# Altium schematic symbol library parts.SCHLIB: 33 symbols
Pins are listed as number, name and electrical type; pins without a type are passive.

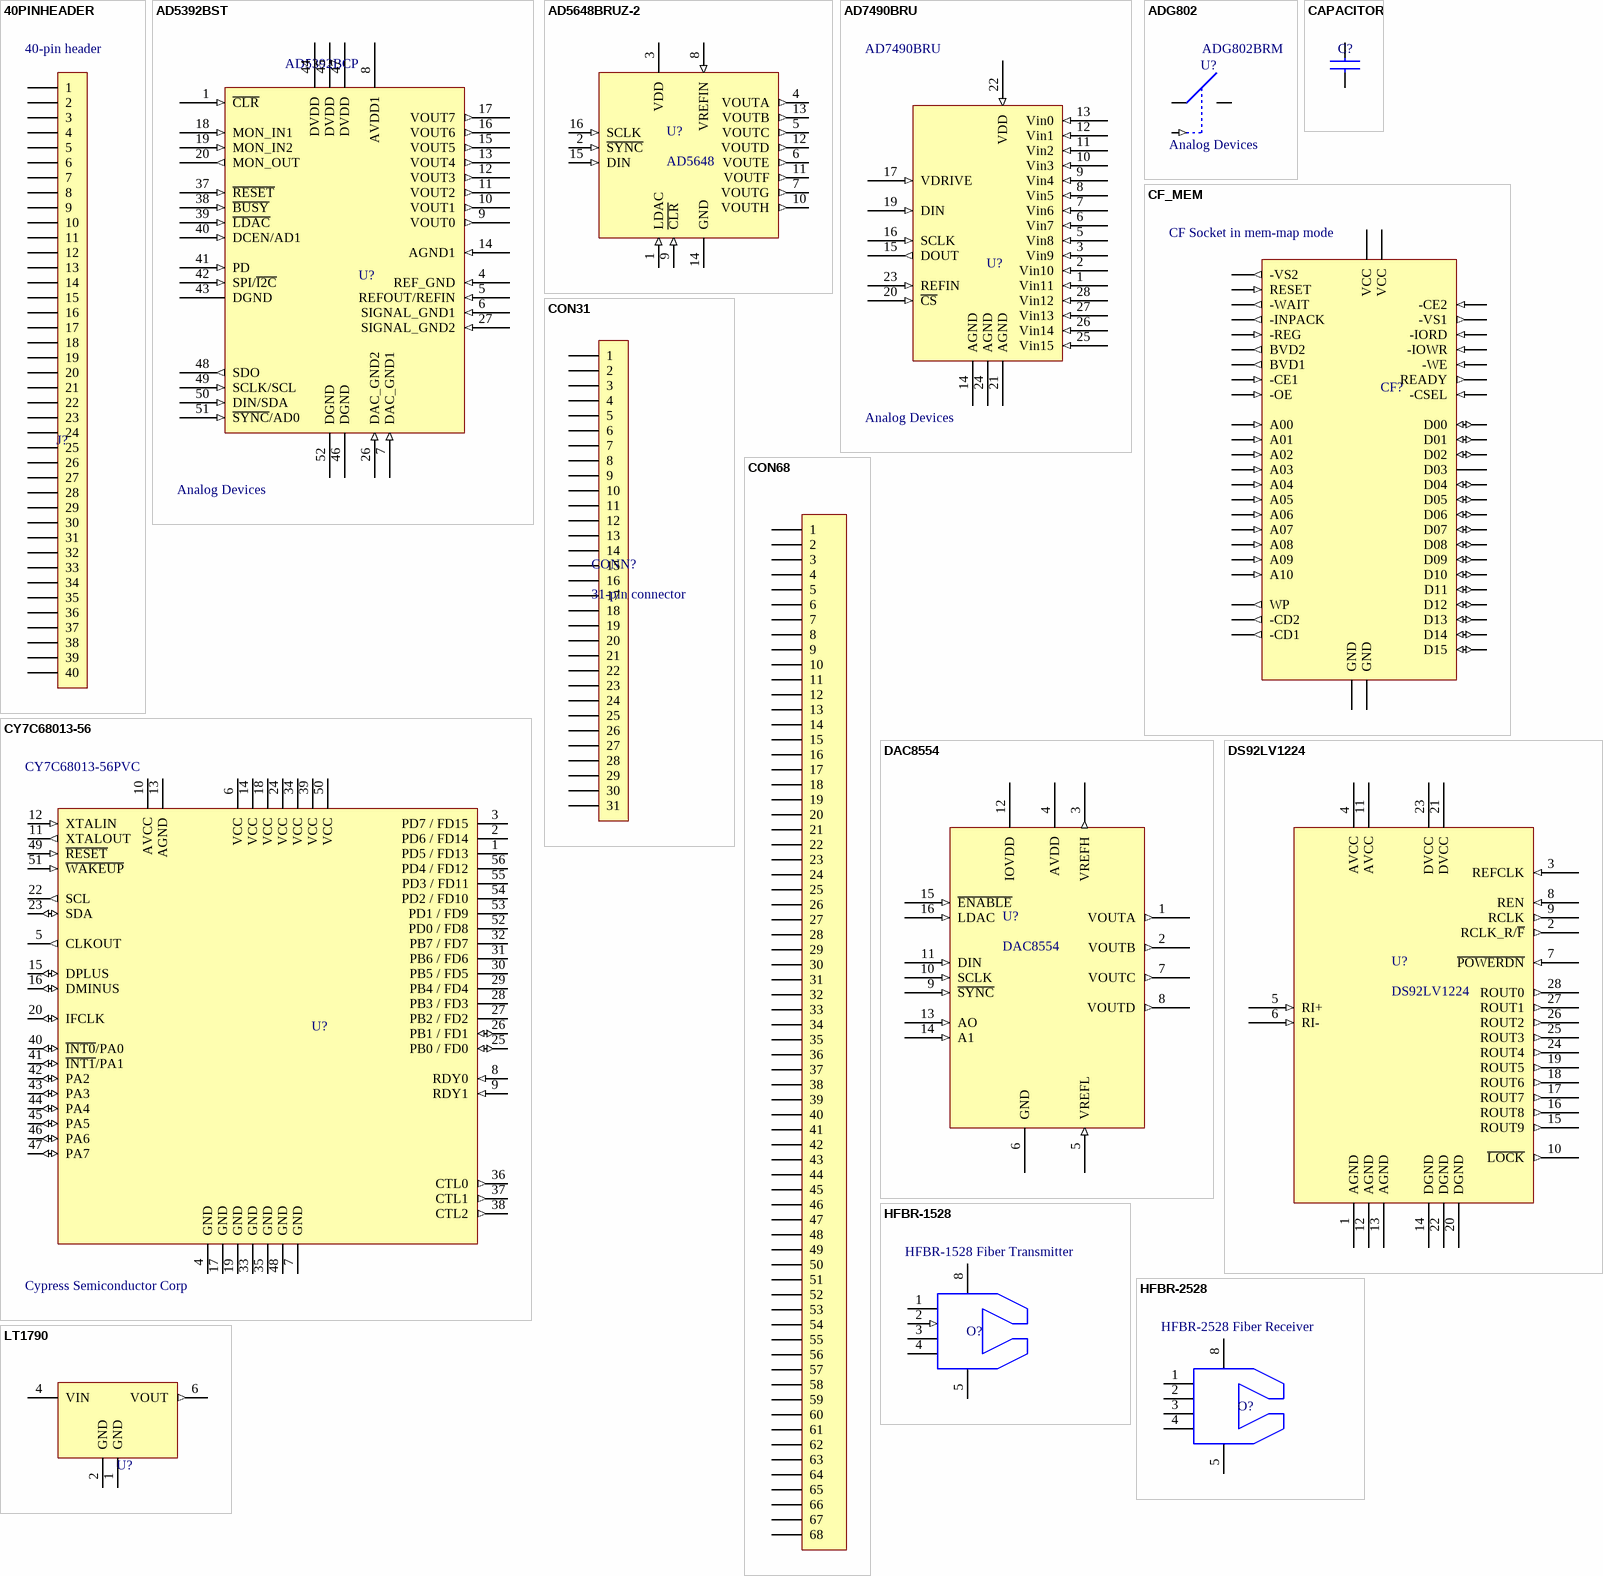
[diagram p0: symbols 40PINHEADER to LT1790]

## 40PINHEADER
designator J?, comment 40-pin header
Simple 40pin connector
pins: 1, 2, 3, 4, 5, 6, 7, 8, 9, 10, 11, 12, 13, 14, 15, 16, 17, 18, 19, 20, 21, 22, 23, 24, 25, 26, 27, 28, 29, 30, 31, 32, 33, 34, 35, 36, 37, 38, 39, 40

## AD5392BST
designator U?, comment AD5392BCP  Vendor: Analog Devices
8-chan 14-BIT DAC
footprint QFP10x10-G52/Y1.6N
pins: 1 ~{CLR} (in), 4 REF_GND (in), 5 REFOUT/REFIN (in), 6 SIGNAL_GND1 (in), 7 DAC_GND1 (in), 8 AVDD1 (power), 9 VOUT0 (out), 10 VOUT1 (out), 11 VOUT2 (out), 12 VOUT3 (out), 13 VOUT4 (out), 14 AGND1 (in), 15 VOUT5 (out), 16 VOUT6 (out), 17 VOUT7 (out), 18 MON_IN1 (in), 19 MON_IN2 (in), 20 MON_OUT (out), 26 DAC_GND2 (in), 27 SIGNAL_GND2 (in), 37 ~{RESET} (in), 38 ~{BUSY} (in), 39 ~{LDAC} (in), 40 DCEN/AD1 (in), 41 PD (in), 42 SPI/~{I2C} (in), 43 DGND (power), 44 DVDD (power), 45 DVDD (power), 46 DGND (power), 47 DVDD (power), 48 SDO (out), 49 SCLK/SCL (in), 50 DIN/SDA (in), 51 ~{SYNC}/AD0 (in), 52 DGND (power)

## AD5648BRUZ-2
designator U?, comment AD5648
AD 14-bit DAC
footprint TSSO5x6-G16 (Shrink Small Outline; 16 Leads; Body Width 4.4 mm; Pitch 0.65 mm)
pins: 1 LDAC (in), 2 ~{SYNC} (in), 3 VDD (power), 4 VOUTA (out), 5 VOUTC (out), 6 VOUTE (out), 7 VOUTG (out), 8 VREFIN (in), 9 ~{CLR} (in), 10 VOUTH (out), 11 VOUTF (out), 12 VOUTD (out), 13 VOUTB (out), 14 GND (power), 15 DIN (in), 16 SCLK (in)

## AD7490BRU
designator U?  Vendor: Analog Devices
16-chan 12-bit ADC
footprint SSO-G28/X.45
pins: 1 Vin11 (in), 2 Vin10 (in), 3 Vin9 (in), 5 Vin8 (in), 6 Vin7 (in), 7 Vin6 (in), 8 Vin5 (in), 9 Vin4 (in), 10 Vin3 (in), 11 Vin2 (in), 12 Vin1 (in), 13 Vin0 (in), 14 AGND (power), 15 DOUT (out), 16 SCLK (in), 17 VDRIVE (in), 19 DIN (in), 20 ~{CS} (in), 21 AGND (power), 22 VDD (in), 23 REFIN (in), 24 AGND (power), 25 Vin15 (in), 26 Vin14 (in), 27 Vin13 (in), 28 Vin12 (in)

## ADG802
designator U?, comment ADG802BRM  Vendor: Analog Devices
Low Ron single-supply SPST NO mux.
footprint AD RM-8
pins: 1 D, 4 AVDD (power) hidden to AVDD, 6 IN (in), 7 GND (power) hidden to GND, 8 S

## CAPACITOR
designator C?
Standard Capacitor; Type: X7R
footprint 0603 (Standard-sized 0603 Passive)
pins: 1, 2

## CF_MEM
designator CF?, comment CF Socket in mem-map mode
CF socket in memory-mapped mode
pins: 1 GND (power), 2 D03 (power), 3 D04 (io), 4 D05 (io), 5 D06 (io), 6 D07 (io), 7 -CE1 (in), 8 A10 (in), 9 -OE (in), 10 A09 (in), 11 A08 (in), 12 A07 (in), 13 VCC (power), 14 A06 (in), 15 A05 (in), 16 A04 (in), 17 A03 (in), 18 A02 (in), 19 A01 (in), 20 A00 (in), 21 D00 (io), 22 D01 (io), 23 D02 (io), 24 WP (out), 25 -CD2 (out), 26 -CD1 (out), 27 D11 (io), 28 D12 (io), 29 D13 (io), 30 D14 (io), 31 D15 (io), 32 -CE2 (in), 33 -VS1 (out), 34 -IORD (in), 35 -IOWR (in), 36 -WE (in), 37 READY (out), 38 VCC (power), 39 -CSEL (in), 40 -VS2 (out), 41 RESET (in), 42 -WAIT (out), 43 -INPACK (out), 44 -REG (in), 45 BVD2 (out), 46 BVD1 (out), 47 D08 (io), 48 D09 (io), 49 D10 (io), 50 GND (power)

## CON31
designator CONN?, comment 31-pin connector
pins: 1, 2, 3, 4, 5, 6, 7, 8, 9, 10, 11, 12, 13, 14, 15, 16, 17, 18, 19, 20, 21, 22, 23, 24, 25, 26, 27, 28, 29, 30, 31

## CON68
designator ?
pins: 1, 2, 3, 4, 5, 6, 7, 8, 9, 10, 11, 12, 13, 14, 15, 16, 17, 18, 19, 20, 21, 22, 23, 24, 25, 26, 27, 28, 29, 30, 31, 32, 33, 34, 35, 36, 37, 38, 39, 40, 41, 42, 43, 44, 45, 46, 47, 48, 49, 50, 51, 52, 53, 54, 55, 56, 57, 58, 59, 60, 61, 62, 63, 64, 65, 66, 67, 68

## CY7C68013-56
designator U?, comment CY7C68013-56PVC  Vendor: Cypress Semiconductor Corp
EZ-USB FX2
footprint SOP56FX2
pins: 1 PD5 / FD13, 2 PD6 / FD14, 3 PD7 / FD15, 4 GND (power), 5 CLKOUT (out), 6 VCC (power), 7 GND (power), 8 RDY0 (in), 9 RDY1 (in), 10 AVCC (power), 11 XTALOUT (out), 12 XTALIN (in), 13 AGND (power), 14 VCC (power), 15 DPLUS (io), 16 DMINUS (io), 17 GND (power), 18 VCC (power), 19 GND (power), 20 IFCLK (io), 22 SCL (out), 23 SDA (io), 24 VCC (power), 25 PB0 / FD0 (io), 26 PB1 / FD1 (io), 27 PB2 / FD2, 28 PB3 / FD3, 29 PB4 / FD4, 30 PB5 / FD5, 31 PB6 / FD6, 32 PB7 / FD7, 33 GND (power), 34 VCC (power), 35 GND (power), 36 CTL0 (out), 37 CTL1 (out), 38 CTL2 (out), 39 VCC (power), 40 ~{INT0}/PA0 (io), 41 ~{INT1}/PA1 (io), 42 PA2 (io), 43 PA3 (io), 44 PA4 (io), 45 PA5 (io), 46 PA6 (io), 47 PA7 (io), 48 GND (power), 49 ~{RESET} (in), 50 VCC (power), 51 ~{WAKEUP} (in), 52 PD0 / FD8, 53 PD1 / FD9, 54 PD2 / FD10, 55 PD3 / FD11, 56 PD4 / FD12

## DAC8554
designator U?
TI 16-bit quad chan Voltage Output DAC
footprint TSSO5x6-G16 (Shrink Small Outline; 16 Leads; Body Width 4.4 mm; Pitch 0.65 mm)
pins: 1 VOUTA (out), 2 VOUTB (out), 3 VREFH (out), 4 AVDD (power), 5 VREFL (in), 6 GND (power), 7 VOUTC (out), 8 VOUTD (out), 9 ~{SYNC} (in), 10 SCLK (in), 11 DIN (in), 12 IOVDD (power), 13 AO (in), 14 A1 (in), 15 ~{ENABLE} (in), 16 LDAC (in)

## DS92LV1224
designator U?
30-66 MHz 10-Bit Bus LVDS Deserializer
footprint SSO-G28/E4.3 (SSOP; 28 Leads; Body Width 5.3 mm; Pitch 0.65 mm)
pins: 1 AGND (power), 2 RCLK_R/~{F} (out), 3 REFCLK (in), 4 AVCC (power), 5 RI+ (in), 6 RI- (in), 7 ~{POWERDN} (in), 8 REN (in), 9 RCLK (out), 10 ~{LOCK} (out), 11 AVCC (power), 12 AGND (power), 13 AGND (power), 14 DGND (power), 15 ROUT9 (out), 16 ROUT8 (out), 17 ROUT7 (out), 18 ROUT6 (out), 19 ROUT5 (out), 20 DGND (power), 21 DVCC (power), 22 DGND (power), 23 DVCC (power), 24 ROUT4 (out), 25 ROUT3 (out), 26 ROUT2 (out), 27 ROUT1 (out), 28 ROUT0 (out)

## HFBR-1528
designator O?, comment HFBR-1528 Fiber Transmitter
Low-cost fiber transmitter; Vendor: Agilent
footprint HPVL
pins: 1 (power), 2 (in), 3 (power), 4 (power), 5 (power), 8 (power)

## HFBR-2528
designator O?, comment HFBR-2528 Fiber Receiver
Low-cost fiber receiver; Vendor: Agilent
footprint HPVL
pins: 1 (power), 2 (power), 3 (power), 4 (power), 5 (power), 8 (power)

## LT1790
designator U?
Micropower SOT-23 Low Dropout Reference Family; Vendor: Linear Technology
footprint LTI SOT-23 ThinSOT
pins: 1 GND (power), 2 GND (power), 4 VIN (power), 6 VOUT (out)

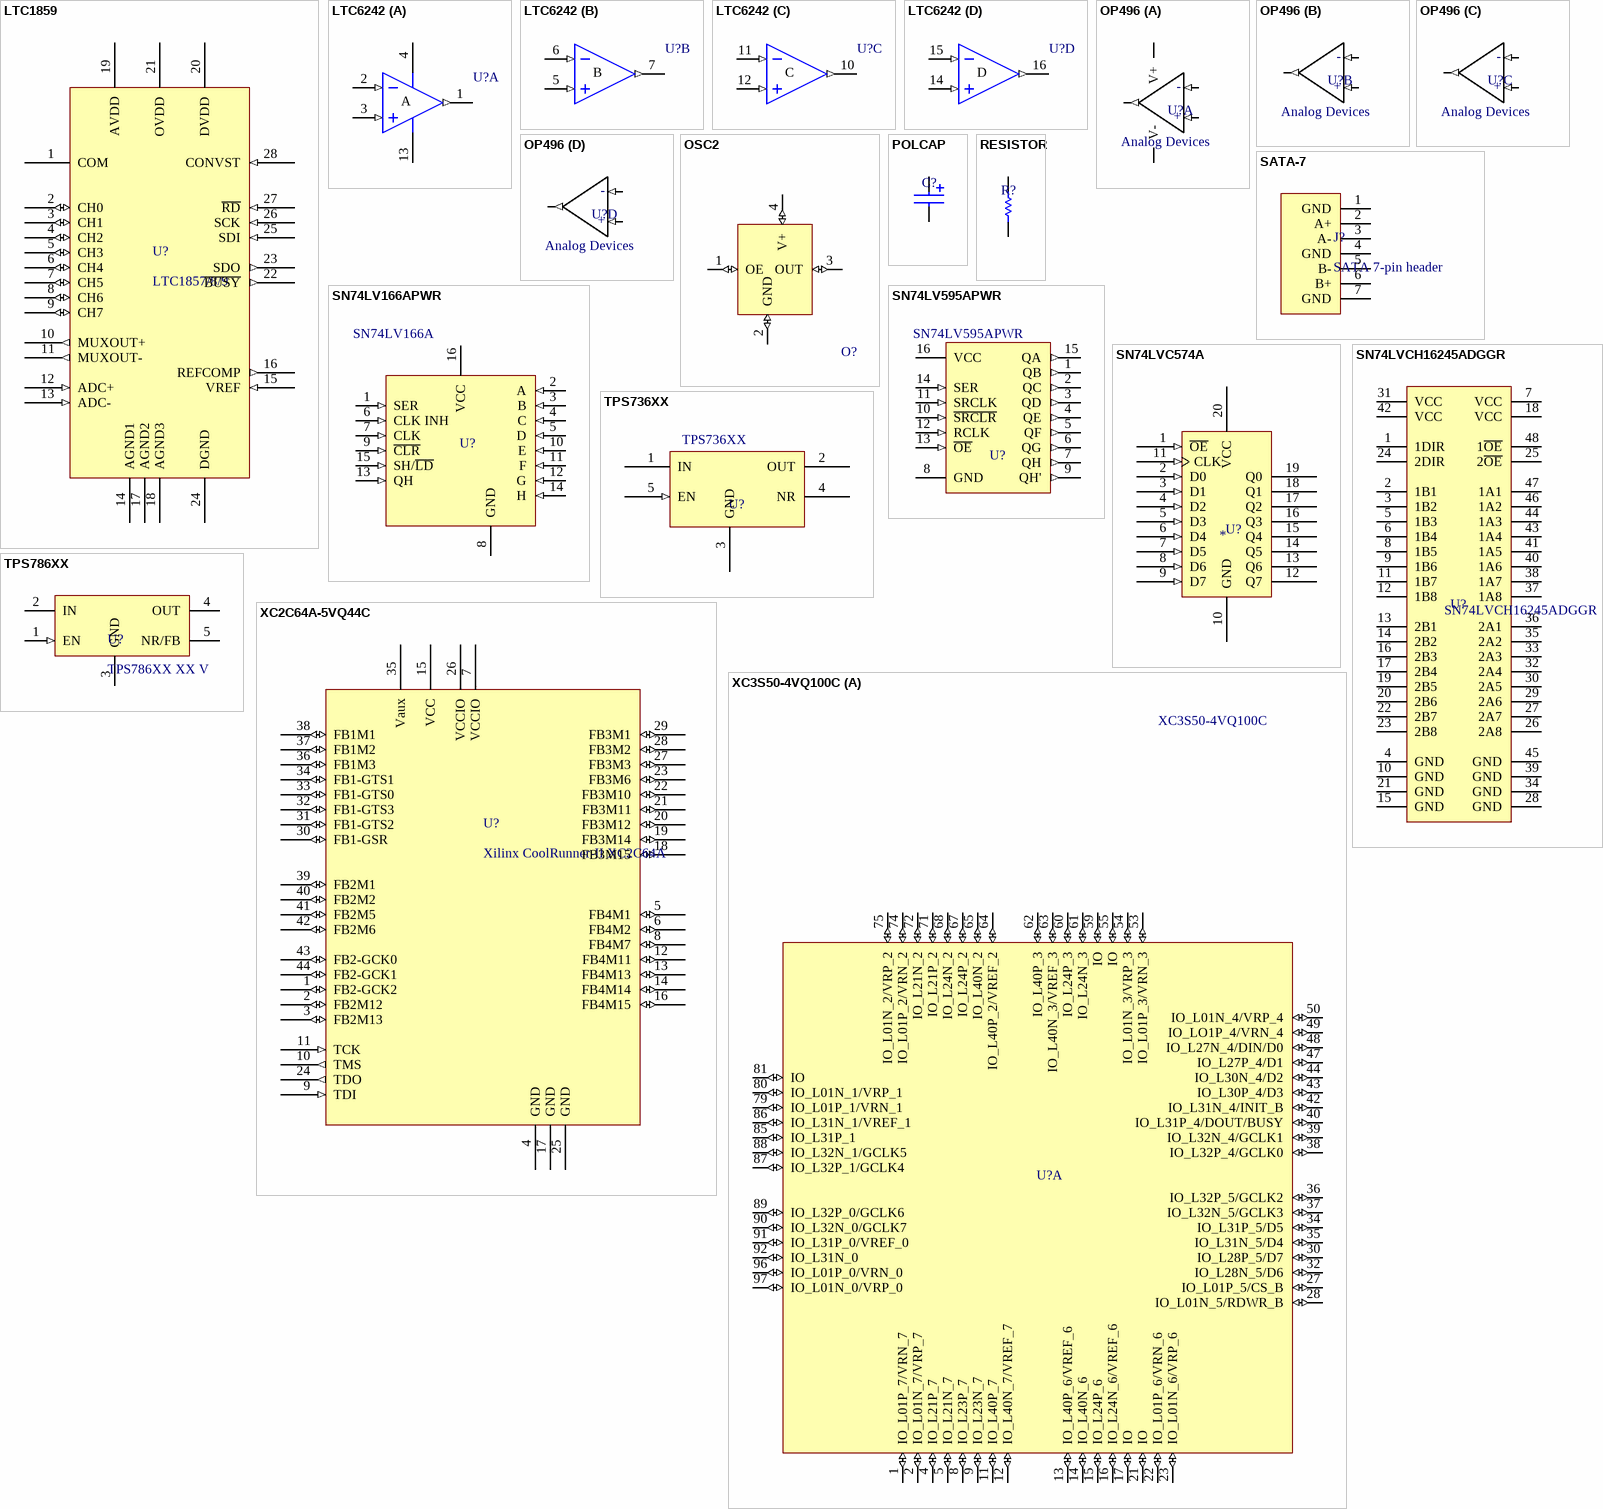
[diagram p1: symbols LTC1859 to XC3S50-4VQ100C]

## LTC1859
designator U?, comment LTC1857/8/9
LTC 8-channel 12, 14, 16 100ksps ADC
footprint LTI_G_TSSOP
pins: 1 COM (power), 2 CH0 (io), 3 CH1 (io), 4 CH2 (io), 5 CH3 (io), 6 CH4 (io), 7 CH5 (io), 8 CH6 (io), 9 CH7 (io), 10 MUXOUT+ (out), 11 MUXOUT- (out), 12 ADC+ (in), 13 ADC- (in), 14 AGND1 (power), 15 VREF (in), 16 REFCOMP (out), 17 AGND2 (power), 18 AGND3 (power), 19 AVDD (power), 20 DVDD (power), 21 OVDD (power), 22 ~{BUSY} (out), 23 SDO (out), 24 DGND (power), 25 SDI (in), 26 SCK (in), 27 ~{RD} (in), 28 CONVST (in)

## LTC6242
designator U?
Quad 18 Mhz, Low Noise, Rail-to-Rail CMOS Op-Amp; Published: 8-Jun-2000; LatestRevisionDate: 6-Jun-2005; DatasheetDocument: 1996; Publisher: Altium Limited
footprint LTCDHC-16 (16-lead plastic DFN from LTI)
part A pins: 1 OUT (out), 2 IN- (in), 3 IN+ (in), 4 V+ (power), 13 V- (power)
part B pins: 5 IN+ (in), 6 IN- (in), 7 OUT (out)
part C pins: 10 OUT (out), 11 IN- (in), 12 IN+ (in)
part D pins: 14 IN+ (in), 15 IN- (in), 16 OUT (out)
part A text: A
part B text: B
part C text: C
part D text: D

## OP496
designator U?, comment Vendor: Analog Devices  (hidden comment: OP496GS)
quad RRIO OA
footprint SO-G14
part A pins: 1 OUTA (out), 2 -INA (in), 3 +INA (in), 4 V+ (power), 11 V- (power)
part B pins: 5 +INB (in), 6 -INB (in), 7 OUTB (out)
part C pins: 8 OUTC (out), 9 -INC (in), 10 +INC (in)
part D pins: 12 +IND (in), 13 -IND (in), 14 OUTD (out)
part A text: -; +
part B text: -; +
part C text: -; +
part D text: -; +

## OSC2
designator O?
ECS SMD Oscillator, ECS-3953M
footprint ECS-3953M (ECS SMD CLOCK OSCILLATOR)
pins: 1 OE (io), 2 GND (io), 3 OUT (io), 4 V+ (io)

## POLCAP
designator C?
Standard Capacitor; Type: X7R
footprint 3216 (Standard-Sized 3216 Polarized Leadless Cap)
pins: 1, 2

## RESISTOR
designator R?
Standard Passive Resistor
footprint 0603 (Standard-sized 0603 Passive)
pins: 1, 2

## SATA-7
designator J?, comment SATA 7-pin header
footprint MOLES 67800-5005 (SATA vertical PCB HEADER SMT)
pins: 1 GND, 2 A+, 3 A-, 4 GND, 5 B-, 6 B+, 7 GND

## SN74LV166APWR
designator U?, comment SN74LV166A
8-bit parallel-load shift register
footprint SSO-G16/X.4
pins: 1 SER (in), 2 A (in), 3 B (in), 4 C (in), 5 D (in), 6 CLK INH (in), 7 CLK (in), 8 GND (power), 9 ~{CLR} (in), 10 E (in), 11 F (in), 12 G (in), 13 QH (in), 14 H (in), 15 SH/~{LD} (in), 16 VCC (power)

## SN74LV595APWR
designator U?
8-bit shift register with 3-state output; Vendor: Texas Instruments
footprint SSO-G16/X.4
pins: 1 QB (out), 2 QC (out), 3 QD (out), 4 QE (out), 5 QF (out), 6 QG (out), 7 QH (out), 8 GND (power), 9 QH' (out), 10 ~{SRCLR} (in), 11 SRCLK (in), 12 RCLK (in), 13 ~{OE} (in), 14 SER (in), 15 QA (out), 16 VCC (power)

## SN74LVC574A
designator U?
Octal Transparent D-type Latch with 3-state output
footprint SO20W
pins: 1 ~{OE} (in), 2 D0 (in), 3 D1 (in), 4 D2 (in), 5 D3 (in), 6 D4 (in), 7 D5 (in), 8 D6 (in), 9 D7 (in), 10 GND (power), 11 CLK (in), 12 Q7 (hiz), 13 Q6 (hiz), 14 Q5 (hiz), 15 Q4 (hiz), 16 Q3 (hiz), 17 Q2 (hiz), 18 Q1 (hiz), 19 Q0 (hiz), 20 VCC (power)

## SN74LVCH16245ADGGR
designator U?
16-bit bus transceiver with 3-state outputs
footprint TSSO12x8-G48/X.3 (Shrink Small Outline; 48 Leads; Body Width 6.1 mm; Pitch 0.5 mm)
pins: 1 1DIR, 2 1B1, 3 1B2, 4 GND (power), 5 1B3, 6 1B4, 7 VCC (power), 8 1B5, 9 1B6, 10 GND (power), 11 1B7, 12 1B8, 13 2B1, 14 2B2, 15 GND (power), 16 2B3, 17 2B4, 18 VCC (power), 19 2B5, 20 2B6, 21 GND (power), 22 2B7, 23 2B8, 24 2DIR, 25 2~{OE}, 26 2A8, 27 2A7, 28 GND (power), 29 2A6, 30 2A5, 31 VCC (power), 32 2A4, 33 2A3, 34 GND (power), 35 2A2, 36 2A1, 37 1A8, 38 1A7, 39 GND (power), 40 1A6, 41 1A5, 42 VCC (power), 43 1A4, 44 1A3, 45 GND (power), 46 1A2, 47 1A1, 48 1~{OE}

## TPS736XX
designator U?
Cap-free NMOS 400 mA LDO
footprint SOT223-5/Simple (SOT-223 without large heatsink)
pins: 1 IN (power), 2 OUT (power), 3 GND (power), 4 NR, 5 EN (in)

## TPS786XX
designator U?, comment TPS786XX XX V
TI 1.5A LDO
footprint KTT (TI DDPAK-5)
pins: 1 EN (in), 2 IN (power), 3 GND (power), 4 OUT (power), 5 NR/FB (power)

## XC2C64A-5VQ44C
designator U?, comment Xilinx CoolRunner-II XC2C64A
footprint QFP10x10-G44/G10N (QFP, Metric; 44 Leads; Body 10 x 10 mm; Pitch 0.8 mm)
pins: 1 FB2-GCK2 (io), 2 FB2M12 (io), 3 FB2M13 (io), 4 GND (power), 5 FB4M1 (io), 6 FB4M2 (io), 7 VCCIO (power), 8 FB4M7 (io), 9 TDI (in), 10 TMS (out), 11 TCK (in), 12 FB4M11 (io), 13 FB4M13 (io), 14 FB4M14 (io), 15 VCC (power), 16 FB4M15 (io), 17 GND (power), 18 FB3M15 (io), 19 FB3M14 (io), 20 FB3M12 (io), 21 FB3M11 (io), 22 FB3M10 (io), 23 FB3M6 (io), 24 TDO (out), 25 GND (power), 26 VCCIO (power), 27 FB3M3 (io), 28 FB3M2 (io), 29 FB3M1 (io), 30 FB1-GSR (io), 31 FB1-GTS2 (io), 32 FB1-GTS3 (io), 33 FB1-GTS0 (io), 34 FB1-GTS1 (io), 35 Vaux (power), 36 FB1M3 (io), 37 FB1M2 (io), 38 FB1M1 (io), 39 FB2M1 (io), 40 FB2M2 (io), 41 FB2M5 (io), 42 FB2M6 (io), 43 FB2-GCK0 (io), 44 FB2-GCK1 (io)

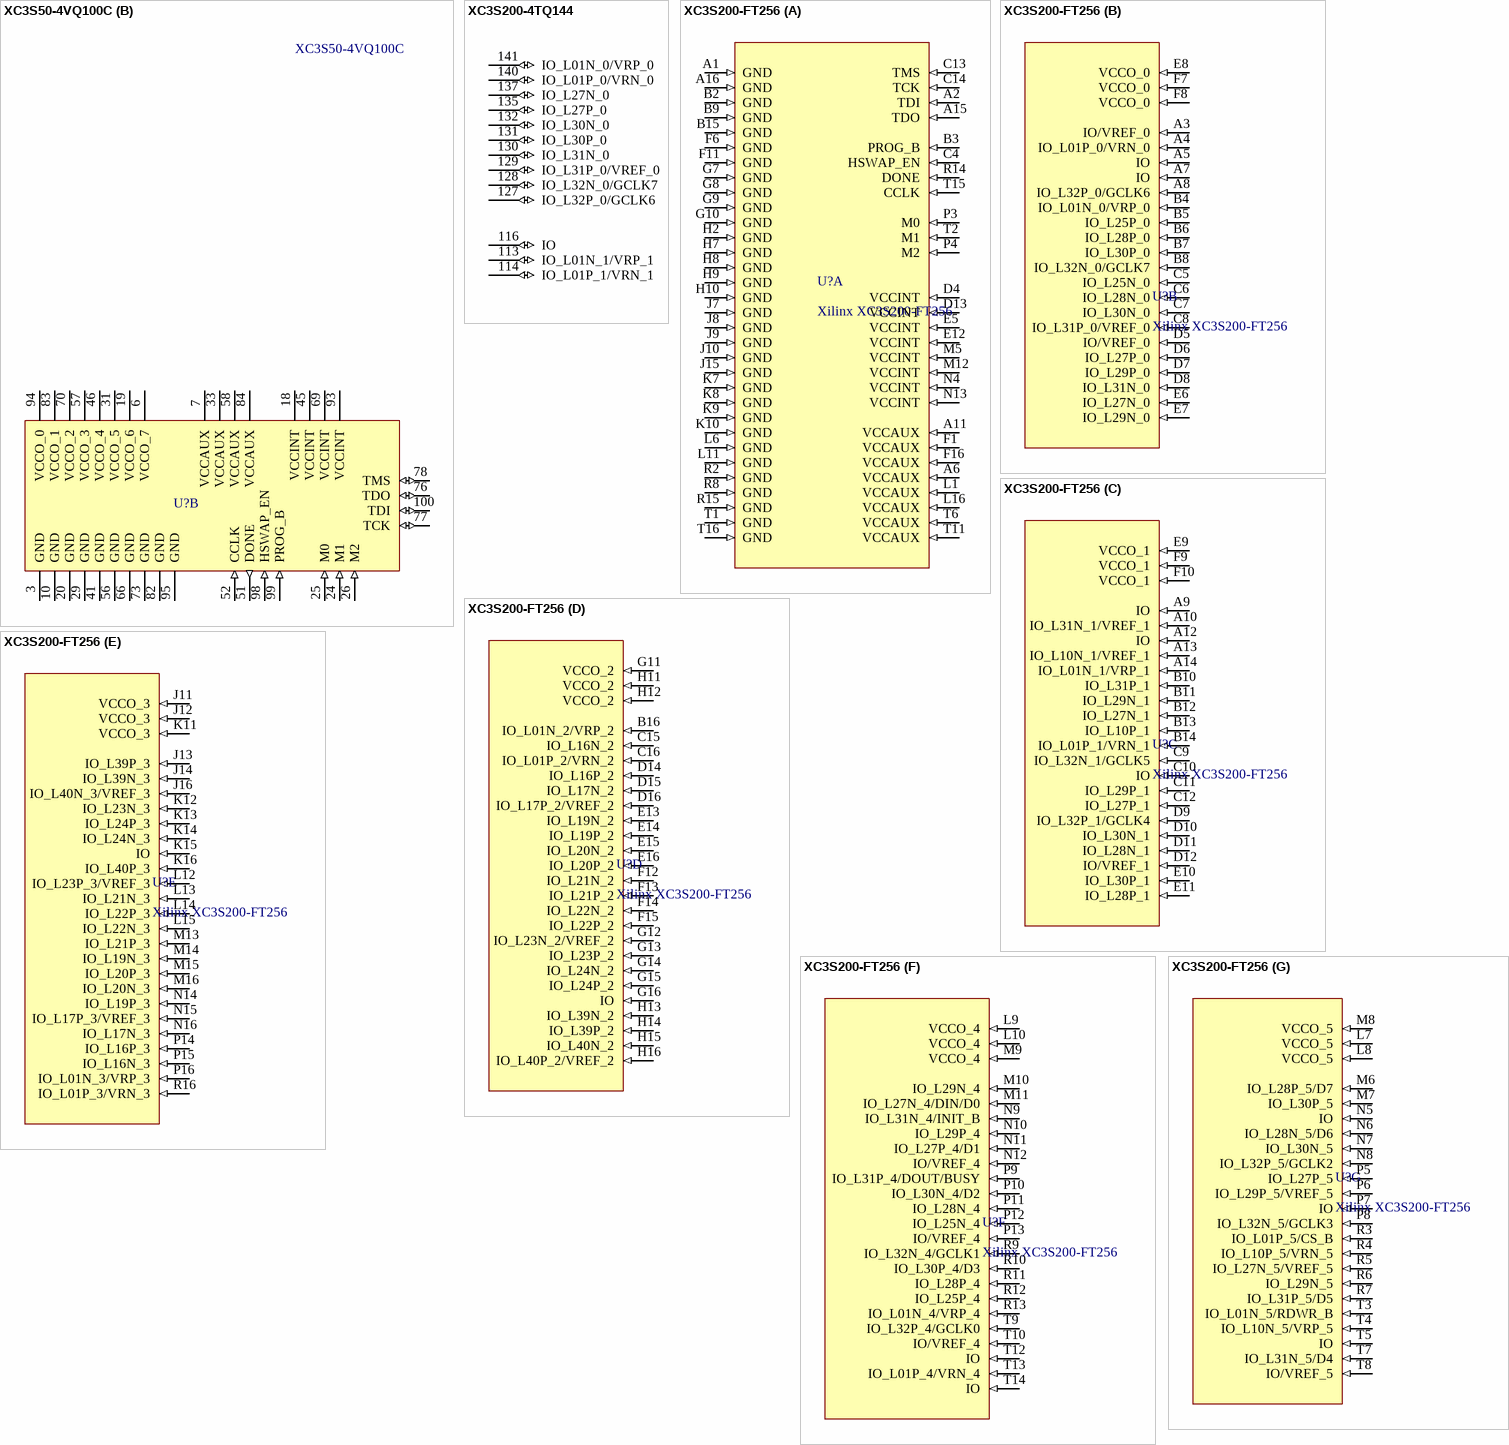
[diagram p2: symbols XC3S50-4VQ100C to XC3S200-FT256]

## XC3S50-4VQ100C
designator U?
Xilinx Spartan-3 VQ100; Vendor: Xilinx
footprint Xilinx TQ100 (QFP; 100 Leads; Body 14 x 14 mm; Pitch 0.5 mm)
part A pins: 1 IO_L01P_7/VRN_7 (io), 2 IO_L01N_7/VRP_7 (io), 4 IO_L21P_7 (io), 5 IO_L21N_7 (io), 8 IO_L23P_7 (io), 9 IO_L23N_7 (io), 11 IO_L40P_7 (io), 12 IO_L40N_7/VREF_7 (io), 13 IO_L40P_6/VREF_6 (io), 14 IO_L40N_6 (io), 15 IO_L24P_6 (io), 16 IO_L24N_6/VREF_6 (io), 17 IO (io), 21 IO (io), 22 IO_L01P_6/VRN_6 (io), 23 IO_L01N_6/VRP_6 (io), 27 IO_L01P_5/CS_B (io), 28 IO_L01N_5/RDWR_B (io), 30 IO_L28P_5/D7 (io), 32 IO_L28N_5/D6 (io), 34 IO_L31P_5/D5 (io), 35 IO_L31N_5/D4 (io), 36 IO_L32P_5/GCLK2 (io), 37 IO_L32N_5/GCLK3 (io), 38 IO_L32P_4/GCLK0 (io), 39 IO_L32N_4/GCLK1 (io), 40 IO_L31P_4/DOUT/BUSY (io), 42 IO_L31N_4/INIT_B (io), 43 IO_L30P_4/D3 (io), 44 IO_L30N_4/D2 (io), 47 IO_L27P_4/D1 (io), 48 IO_L27N_4/DIN/D0 (io), 49 IO_LO1P_4/VRN_4 (io), 50 IO_L01N_4/VRP_4 (io), 53 IO_L01P_3/VRN_3 (io), 54 IO_L01N_3/VRP_3 (io), 55 IO (io), 59 IO (io), 60 IO_L24P_3 (io), 61 IO_L24N_3 (io), 62 IO_L40P_3 (io), 63 IO_L40N_3/VREF_3 (io), 64 IO_L40P_2/VREF_2 (io), 65 IO_L40N_2 (io), 67 IO_L24P_2 (io), 68 IO_L24N_2 (io), 71 IO_L21P_2 (io), 72 IO_L21N_2 (io), 74 IO_L01P_2/VRN_2 (io), 75 IO_L01N_2/VRP_2 (io), 79 IO_L01P_1/VRN_1 (io), 80 IO_L01N_1/VRP_1 (io), 81 IO (io), 85 IO_L31P_1 (io), 86 IO_L31N_1/VREF_1 (io), 87 IO_L32P_1/GCLK4 (io), 88 IO_L32N_1/GCLK5 (io), 89 IO_L32P_0/GCLK6 (io), 90 IO_L32N_0/GCLK7 (io), 91 IO_L31P_0/VREF_0 (io), 92 IO_L31N_0 (io), 96 IO_L01P_0/VRN_0 (io), 97 IO_L01N_0/VRP_0 (io)
part B pins: 3 GND (power), 6 VCCO_7 (power), 7 VCCAUX (power), 10 GND (power), 18 VCCINT (power), 19 VCCO_6 (power), 20 GND (power), 24 M1 (in), 25 M0 (in), 26 M2 (in), 29 GND (power), 31 VCCO_5 (power), 33 VCCAUX (power), 41 GND (power), 45 VCCINT (power), 46 VCCO_4 (power), 51 DONE (out), 52 CCLK (in), 56 GND (power), 57 VCCO_3 (power), 58 VCCAUX (power), 66 GND (power), 69 VCCINT (power), 70 VCCO_2 (power), 73 GND (power), 76 TDO (io), 77 TCK (io), 78 TMS (io), 82 GND (power), 83 VCCO_1 (power), 84 VCCAUX (power), 93 VCCINT (power), 94 VCCO_0 (power), 95 GND (power), 98 HSWAP_EN (in), 99 PROG_B (in), 100 TDI (io)

## XC3S200-4TQ144
designator *
pins: 113 IO_L01N_1/VRP_1 (io), 114 IO_L01P_1/VRN_1 (io), 116 IO (io), 127 IO_L32P_0/GCLK6 (io), 128 IO_L32N_0/GCLK7 (io), 129 IO_L31P_0/VREF_0 (io), 130 IO_L31N_0 (io), 131 IO_L30P_0 (io), 132 IO_L30N_0 (io), 135 IO_L27P_0 (io), 137 IO_L27N_0 (io), 140 IO_L01P_0/VRN_0 (io), 141 IO_L01N_0/VRP_0 (io)

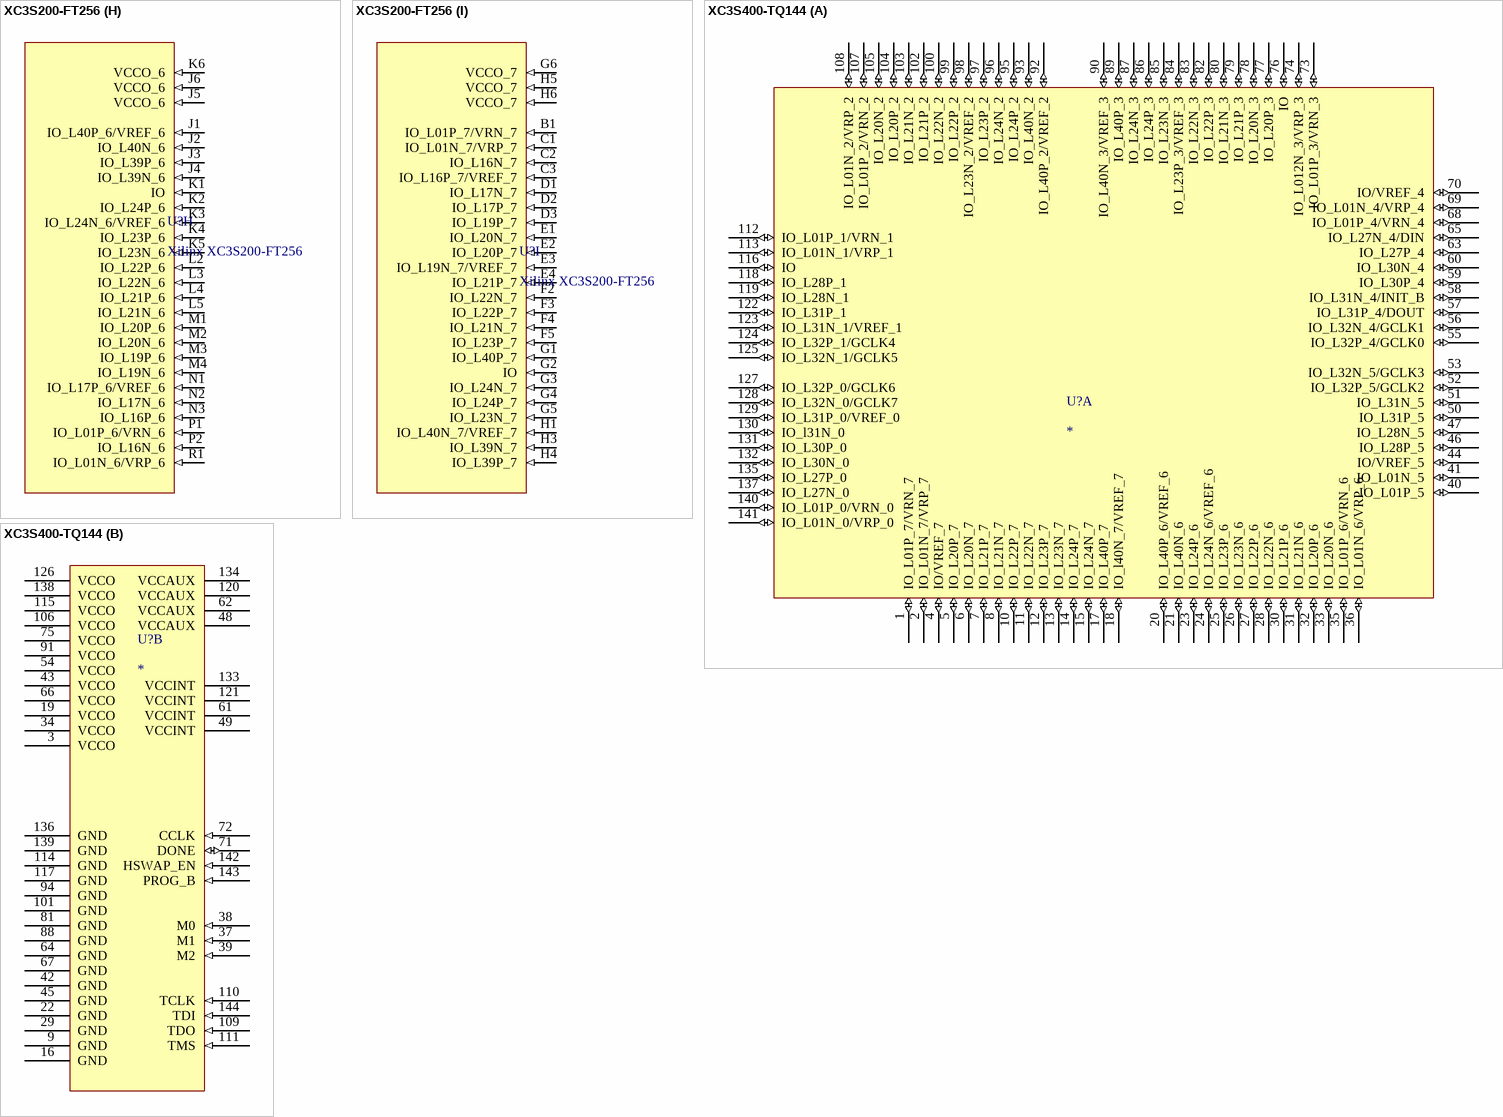
[diagram p3: symbols XC3S200-FT256 to XC3S400-TQ144]

## XC3S200-FT256
designator U?, comment Xilinx XC3S200-FT256
Xilinx Spartan-3 FPGA
footprint Xilinx FT256 BGA (Xilinx BGA)
part A pins: A1 GND (in), A2 TDI (in), A6 VCCAUX (in), A11 VCCAUX (in), A15 TDO (in), A16 GND (in), B2 GND (in), B3 PROG_B (in), B9 GND (in), B15 GND (in), C4 HSWAP_EN (in), C13 TMS (in), C14 TCK (in), D4 VCCINT (in), D13 VCCINT (in), E5 VCCINT (in), E12 VCCINT (in), F1 VCCAUX (in), F6 GND (in), F11 GND (in), F16 VCCAUX (in), G7 GND (in), G8 GND (in), G9 GND (in), G10 GND (in), H2 GND (in), H7 GND (in), H8 GND (in), H9 GND (in), H10 GND (in), J7 GND (in), J8 GND (in), J9 GND (in), J10 GND (in), J15 GND (in), K7 GND (in), K8 GND (in), K9 GND (in), K10 GND (in), L1 VCCAUX (in), L6 GND (in), L11 GND (in), L16 VCCAUX (in), M5 VCCINT (in), M12 VCCINT (in), N4 VCCINT (in), N13 VCCINT (in), P3 M0 (in), P4 M2 (in), R2 GND (in), R8 GND (in), R14 DONE (in), R15 GND (in), T1 GND (in), T2 M1 (in), T6 VCCAUX (in), T11 VCCAUX (in), T15 CCLK (in), T16 GND (in)
part B pins: A3 IO/VREF_0 (in), A4 IO_L01P_0/VRN_0 (in), A5 IO (in), A7 IO (in), A8 IO_L32P_0/GCLK6 (in), B4 IO_L01N_0/VRP_0 (in), B5 IO_L25P_0 (in), B6 IO_L28P_0 (in), B7 IO_L30P_0 (in), B8 IO_L32N_0/GCLK7 (in), C5 IO_L25N_0 (in), C6 IO_L28N_0 (in), C7 IO_L30N_0 (in), C8 IO_L31P_0/VREF_0 (in), D5 IO/VREF_0 (in), D6 IO_L27P_0 (in), D7 IO_L29P_0 (in), D8 IO_L31N_0 (in), E6 IO_L27N_0 (in), E7 IO_L29N_0 (in), E8 VCCO_0 (in), F7 VCCO_0 (in), F8 VCCO_0 (in)
part C pins: A9 IO (in), A10 IO_L31N_1/VREF_1 (in), A12 IO (in), A13 IO_L10N_1/VREF_1 (in), A14 IO_L01N_1/VRP_1 (in), B10 IO_L31P_1 (in), B11 IO_L29N_1 (in), B12 IO_L27N_1 (in), B13 IO_L10P_1 (in), B14 IO_L01P_1/VRN_1 (in), C9 IO_L32N_1/GCLK5 (in), C10 IO (in), C11 IO_L29P_1 (in), C12 IO_L27P_1 (in), D9 IO_L32P_1/GCLK4 (in), D10 IO_L30N_1 (in), D11 IO_L28N_1 (in), D12 IO/VREF_1 (in), E9 VCCO_1 (in), E10 IO_L30P_1 (in), E11 IO_L28P_1 (in), F9 VCCO_1 (in), F10 VCCO_1 (in)
part D pins: B16 IO_L01N_2/VRP_2 (in), C15 IO_L16N_2 (in), C16 IO_L01P_2/VRN_2 (in), D14 IO_L16P_2 (in), D15 IO_L17N_2 (in), D16 IO_L17P_2/VREF_2 (in), E13 IO_L19N_2 (in), E14 IO_L19P_2 (in), E15 IO_L20N_2 (in), E16 IO_L20P_2 (in), F12 IO_L21N_2 (in), F13 IO_L21P_2 (in), F14 IO_L22N_2 (in), F15 IO_L22P_2 (in), G11 VCCO_2 (in), G12 IO_L23N_2/VREF_2 (in), G13 IO_L23P_2 (in), G14 IO_L24N_2 (in), G15 IO_L24P_2 (in), G16 IO (in), H11 VCCO_2 (in), H12 VCCO_2 (in), H13 IO_L39N_2 (in), H14 IO_L39P_2 (in), H15 IO_L40N_2 (in), H16 IO_L40P_2/VREF_2 (in)
part E pins: J11 VCCO_3 (in), J12 VCCO_3 (in), J13 IO_L39P_3 (in), J14 IO_L39N_3 (in), J16 IO_L40N_3/VREF_3 (in), K11 VCCO_3 (in), K12 IO_L23N_3 (in), K13 IO_L24P_3 (in), K14 IO_L24N_3 (in), K15 IO (in), K16 IO_L40P_3 (in), L12 IO_L23P_3/VREF_3 (in), L13 IO_L21N_3 (in), L14 IO_L22P_3 (in), L15 IO_L22N_3 (in), M13 IO_L21P_3 (in), M14 IO_L19N_3 (in), M15 IO_L20P_3 (in), M16 IO_L20N_3 (in), N14 IO_L19P_3 (in), N15 IO_L17P_3/VREF_3 (in), N16 IO_L17N_3 (in), P14 IO_L16P_3 (in), P15 IO_L16N_3 (in), P16 IO_L01N_3/VRP_3 (in), R16 IO_L01P_3/VRN_3 (in)
part F pins: L9 VCCO_4 (in), L10 VCCO_4 (in), M9 VCCO_4 (in), M10 IO_L29N_4 (in), M11 IO_L27N_4/DIN/D0 (in), N9 IO_L31N_4/INIT_B (in), N10 IO_L29P_4 (in), N11 IO_L27P_4/D1 (in), N12 IO/VREF_4 (in), P9 IO_L31P_4/DOUT/BUSY (in), P10 IO_L30N_4/D2 (in), P11 IO_L28N_4 (in), P12 IO_L25N_4 (in), P13 IO/VREF_4 (in), R9 IO_L32N_4/GCLK1 (in), R10 IO_L30P_4/D3 (in), R11 IO_L28P_4 (in), R12 IO_L25P_4 (in), R13 IO_L01N_4/VRP_4 (in), T9 IO_L32P_4/GCLK0 (in), T10 IO/VREF_4 (in), T12 IO (in), T13 IO_L01P_4/VRN_4 (in), T14 IO (in)
part G pins: L7 VCCO_5 (in), L8 VCCO_5 (in), M6 IO_L28P_5/D7 (in), M7 IO_L30P_5 (in), M8 VCCO_5 (in), N5 IO (in), N6 IO_L28N_5/D6 (in), N7 IO_L30N_5 (in), N8 IO_L32P_5/GCLK2 (in), P5 IO_L27P_5 (in), P6 IO_L29P_5/VREF_5 (in), P7 IO (in), P8 IO_L32N_5/GCLK3 (in), R3 IO_L01P_5/CS_B (in), R4 IO_L10P_5/VRN_5 (in), R5 IO_L27N_5/VREF_5 (in), R6 IO_L29N_5 (in), R7 IO_L31P_5/D5 (in), T3 IO_L01N_5/RDWR_B (in), T4 IO_L10N_5/VRP_5 (in), T5 IO (in), T7 IO_L31N_5/D4 (in), T8 IO/VREF_5 (in)
part H pins: J1 IO_L40P_6/VREF_6 (in), J2 IO_L40N_6 (in), J3 IO_L39P_6 (in), J4 IO_L39N_6 (in), J5 VCCO_6 (in), J6 VCCO_6 (in), K1 IO (in), K2 IO_L24P_6 (in), K3 IO_L24N_6/VREF_6 (in), K4 IO_L23P_6 (in), K5 IO_L23N_6 (in), K6 VCCO_6 (in), L2 IO_L22P_6 (in), L3 IO_L22N_6 (in), L4 IO_L21P_6 (in), L5 IO_L21N_6 (in), M1 IO_L20P_6 (in), M2 IO_L20N_6 (in), M3 IO_L19P_6 (in), M4 IO_L19N_6 (in), N1 IO_L17P_6/VREF_6 (in), N2 IO_L17N_6 (in), N3 IO_L16P_6 (in), P1 IO_L01P_6/VRN_6 (in), P2 IO_L16N_6 (in), R1 IO_L01N_6/VRP_6 (in)
part I pins: B1 IO_L01P_7/VRN_7 (in), C1 IO_L01N_7/VRP_7 (in), C2 IO_L16N_7 (in), C3 IO_L16P_7/VREF_7 (in), D1 IO_L17N_7 (in), D2 IO_L17P_7 (in), D3 IO_L19P_7 (in), E1 IO_L20N_7 (in), E2 IO_L20P_7 (in), E3 IO_L19N_7/VREF_7 (in), E4 IO_L21P_7 (in), F2 IO_L22N_7 (in), F3 IO_L22P_7 (in), F4 IO_L21N_7 (in), F5 IO_L23P_7 (in), G1 IO_L40P_7 (in), G2 IO (in), G3 IO_L24N_7 (in), G4 IO_L24P_7 (in), G5 IO_L23N_7 (in), G6 VCCO_7 (in), H1 IO_L40N_7/VREF_7 (in), H3 IO_L39N_7 (in), H4 IO_L39P_7 (in), H5 VCCO_7 (in), H6 VCCO_7 (in)

## XC3S400-TQ144
designator U?
Xilinx Spartan-3 FPGA; Vendor: Xilinx
footprint QFP28x28-G144/N (QFP; 144 Leads; Body 28 x 28 mm; Pitch 0.65 mm)
footprint F-QFP20x20-G144/N (QFP; 144 Leads; Body 20 x 20 mm; Pitch 0.5 mm)
part A pins: 1 IO_L01P_7/VRN_7 (io), 2 IO_L01N_7/VRP_7 (io), 4 IO/VREF_7 (io), 5 IO_L20P_7 (io), 6 IO_L20N_7 (io), 7 IO_L21P_7 (io), 8 IO_L21N_7 (io), 10 IO_L22P_7 (io), 11 IO_L22N_7 (io), 12 IO_L23P_7 (io), 13 IO_L23N_7 (io), 14 IO_L24P_7 (io), 15 IO_L24N_7 (io), 17 IO_L40P_7 (io), 18 IO_l40N_7/VREF_7 (io), 20 IO_L40P_6/VREF_6 (io), 21 IO_L40N_6 (io), 23 IO_L24P_6 (io), 24 IO_L24N_6/VREF_6 (io), 25 IO_L23P_6 (io), 26 IO_L23N_6 (io), 27 IO_L22P_6 (io), 28 IO_L22N_6 (io), 30 IO_L21P_6 (io), 31 IO_L21N_6 (io), 32 IO_L20P_6 (io), 33 IO_L20N_6 (io), 35 IO_L01P_6/VRN_6 (io), 36 IO_L01N_6/VRP_6 (io), 40 IO_L01P_5 (io), 41 IO_L01N_5 (io), 44 IO/VREF_5 (io), 46 IO_L28P_5 (io), 47 IO_L28N_5 (io), 50 IO_L31P_5 (io), 51 IO_L31N_5 (io), 52 IO_L32P_5/GCLK2 (io), 53 IO_L32N_5/GCLK3 (io), 55 IO_L32P_4/GCLK0 (io), 56 IO_L32N_4/GCLK1 (io), 57 IO_L31P_4/DOUT (io), 58 IO_L31N_4/INIT_B (io), 59 IO_L30P_4 (io), 60 IO_L30N_4 (io), 63 IO_L27P_4 (io), 65 IO_L27N_4/DIN (io), 68 IO_L01P_4/VRN_4 (io), 69 IO_L01N_4/VRP_4 (io), 70 IO/VREF_4 (io), 73 IO_L01P_3/VRN_3 (io), 74 IO_L012N_3/VRP_3 (io), 76 IO (io), 77 IO_L20P_3 (io), 78 IO_L20N_3 (io), 79 IO_L21P_3 (io), 80 IO_L21N_3 (io), 82 IO_L22P_3 (io), 83 IO_L22N_3 (io), 84 IO_L23P_3/VREF_3 (io), 85 IO_L23N_3 (io), 86 IO_L24P_3 (io), 87 IO_L24N_3 (io), 89 IO_L40P_3 (io), 90 IO_L40N_3/VREF_3 (io), 92 IO_L40P_2/VREF_2 (io), 93 IO_L40N_2 (io), 95 IO_L24P_2 (io), 96 IO_L24N_2 (io), 97 IO_L23P_2 (io), 98 IO_L23N_2/VREF_2 (io), 99 IO_L22P_2 (io), 100 IO_L22N_2 (io), 102 IO_L21P_2 (io), 103 IO_L21N_2 (io), 104 IO_L20P_2 (io), 105 IO_L20N_2 (io), 107 IO_L01P_2/VRN_2 (io), 108 IO_L01N_2/VRP_2 (io), 112 IO_L01P_1/VRN_1 (io), 113 IO_L01N_1/VRP_1 (io), 116 IO (io), 118 IO_L28P_1 (io), 119 IO_L28N_1 (io), 122 IO_L31P_1 (io), 123 IO_L31N_1/VREF_1 (io), 124 IO_L32P_1/GCLK4 (io), 125 IO_L32N_1/GCLK5 (io), 127 IO_L32P_0/GCLK6 (io), 128 IO_L32N_0/GCLK7 (io), 129 IO_L31P_0/VREF_0 (io), 130 IO_l31N_0 (io), 131 IO_L30P_0 (io), 132 IO_L30N_0 (io), 135 IO_L27P_0 (io), 137 IO_L27N_0 (io), 140 IO_L01P_0/VRN_0 (io), 141 IO_L01N_0/VRP_0 (io)
part B pins: 3 VCCO (power), 9 GND (power), 16 GND (power), 19 VCCO (power), 22 GND (power), 29 GND (power), 34 VCCO (power), 37 M1 (in), 38 M0 (in), 39 M2 (in), 42 GND (power), 43 VCCO (power), 45 GND (power), 48 VCCAUX (power), 49 VCCINT (power), 54 VCCO (power), 61 VCCINT (power), 62 VCCAUX (power), 64 GND (power), 66 VCCO (power), 67 GND (power), 71 DONE (io), 72 CCLK (in), 75 VCCO (power), 81 GND (power), 88 GND (power), 91 VCCO (power), 94 GND (power), 101 GND (power), 106 VCCO (power), 109 TDO (in), 110 TCLK (in), 111 TMS (in), 114 GND (power), 115 VCCO (power), 117 GND (power), 120 VCCAUX (power), 121 VCCINT (power), 126 VCCO (power), 133 VCCINT (power), 134 VCCAUX (power), 136 GND (power), 138 VCCO (power), 139 GND (power), 142 HSWAP_EN (in), 143 PROG_B (in), 144 TDI (in)